# EAGLE library part SN74ACT244DW (library SN74ACT244DW)
SN74ACT244DW, 8-Bit Buffer, Line Driver, ACT, 3-State Non-Inverting 4.5 5.5 V 20-Pin SOIC Source: Datasheet <http://www.ti.com/lit/ds/symlink/sn74act244.pdf>
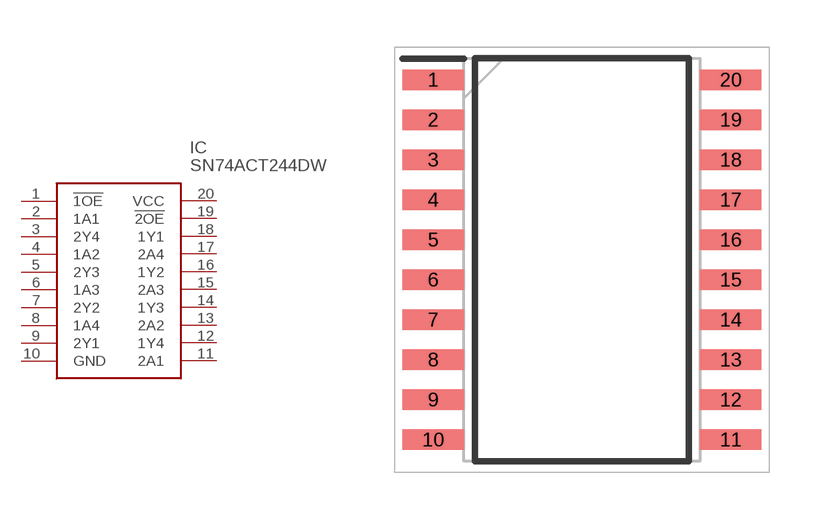
[diagram p0: symbol with the pads of SOIC127P1030X265-20N; footprint SOIC127P1030X265-20N]

Designator prefix IC

## SN74ACT244DW (Arrow_Part_Number: SN74ACT244DW; Arrow_Price-Stock: https://www.arrow.com/en/products/sn74act244dw/texas-instruments; Description: SN74ACT244DW, 8-Bit Buffer, Line Driver, ACT, 3-State Non-Inverting 4.5 5.5 V 20-Pin SOIC; Height: 2.65mm; Manufacturer_Name: Texas Instruments; Manufacturer_Part_Number: SN74ACT244DW; RS_Part_Number: 4363169; RS_Price-Stock: http://uk.rs-online.com/web/p/products/4363169)  [SOIC127P1030X265-20N]
1  !1OE  in
2  1A1  in
3  2Y4  out
4  1A2  in
5  2Y3  out
6  1A3  in
7  2Y2  out
8  1A4  in
9  2Y1  out
10  GND  pwr
11  2A1  in
12  1Y4  out
13  2A2  in
14  1Y3  out
15  2A3  in
16  1Y2  out
17  2A4  in
18  1Y1  out
19  !2OE  in
20  VCC  pwr

## Footprint SOIC127P1030X265-20N (pad centres in mm)
DW (R-PDSO-G20)
smd 1.95 x 0.65: 1 -4.725,5.715; 2 -4.725,4.445; 3 -4.725,3.175; 4 -4.725,1.905; 5 -4.725,0.635; 6 -4.725,-0.635; 7 -4.725,-1.905; 8 -4.725,-3.175; 9 -4.725,-4.445; 10 -4.725,-5.715; 11 4.725,-5.715; 12 4.725,-4.445; 13 4.725,-3.175; 14 4.725,-1.905; 15 4.725,-0.635; 16 4.725,0.635; 17 4.725,1.905; 18 4.725,3.175; 19 4.725,4.445; 20 4.725,5.715